# Altium schematic symbol library yaoyaobang.SCHLIB: 6 symbols
Pins are listed as number, name and electrical type; pins without a type are passive.

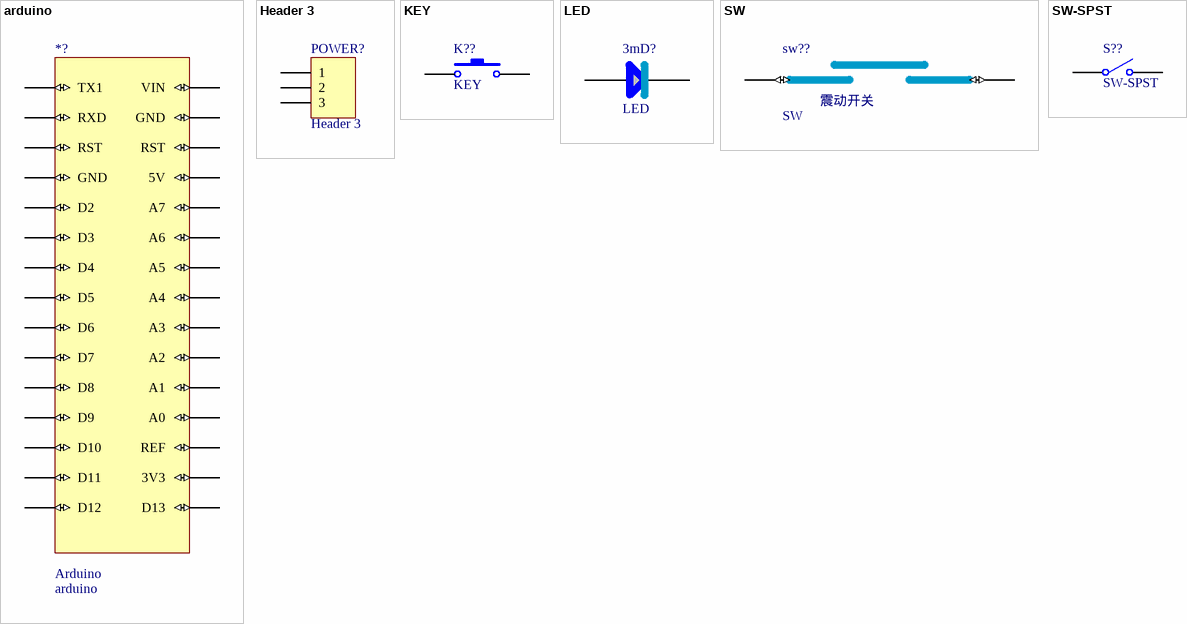
[diagram p0: symbols arduino to SW-SPST]

## arduino
designator *?
footprint arduino
footprint arduino
footprint arduino
footprint arduino
pins: 0 TX1 (io), 1 RXD (io), 2 RST (io), 3 GND (io), 4 D2 (io), 5 D3 (io), 6 D4 (io), 7 D5 (io), 8 D6 (io), 9 D7 (io), 10 D8 (io), 11 D9 (io), 12 D10 (io), 13 D11 (io), 14 D12 (io), 15 D13 (io), 16 3V3 (io), 17 REF (io), 18 A0 (io), 19 A1 (io), 20 A2 (io), 21 A3 (io), 22 A4 (io), 23 A5 (io), 24 A6 (io), 25 A7 (io), 26 5V (io), 27 RST (io), 28 GND (io), 29 VIN (io)
text: Arduino

## Header 3
designator POWER?
Header, 3-Pin; LatestRevisionDate: 17-Jul-2002; LatestRevisionNote: Re-released for DXP Platform.; Publisher: Altium Limited
footprint HDR1X3 (Connector; Header; 3 Position)
signal-integrity model Connector
pins: 1, 2, 3

## KEY
designator K??
footprint KEY_4.5*4.5 (4脚，4.5mm*4.5mm)
footprint KEY_3*6
footprint 0603R
pins: 0, 1

## LED
designator 3mD?
footprint PCBComponent_1
footprint PCBComponent_1
footprint PCBComponent_1
pins: 0, 1

## SW
designator sw??
footprint PCBComponent_1 - duplicate
pins: 2 (io), 3 (io)
text: 震动开关

## SW-SPST
designator S??
Single-Pole, Single-Throw Switch; Published: 24-Mar-1999; LatestRevisionDate: 17-Jul-2002; LatestRevisionNote: Re-released for DXP Platform.; PackageReference: SPST-2; Publisher: Altium Limited
footprint 纽子开关
footprint SPST-2 (Switch; 2 Leads)
footprint 拨动开关（小）
pins: 1, 2